# EAGLE library part LM741 (library op-amp)
OP-AMP - Operational Amplifier
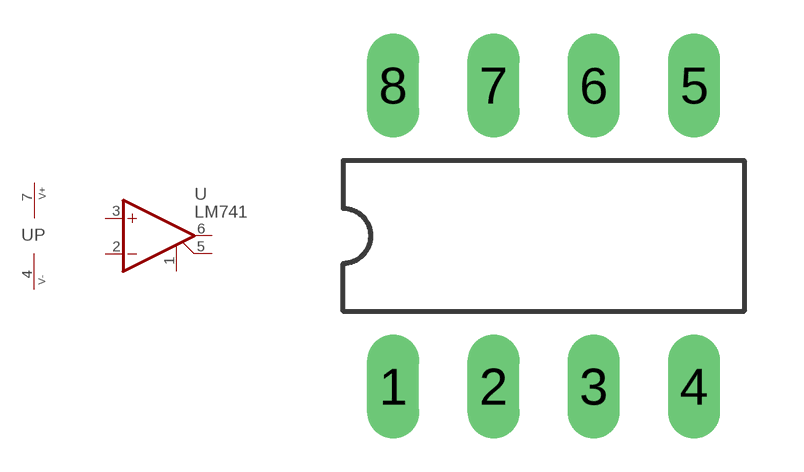
[diagram p33: symbol with the pads of DIL08; footprint DIL08]

Designator prefix U; gates G$1=OPAMP_PV P=PWR_V+- G$2=_OFFNULL2

## LM741N (P1I: o)  [DIL08]
1  G$2:NULL1  pas
2  G$1:-IN  in
3  G$1:+IN  in
4  P:V-  pwr
5  G$2:NULL2  pas
6  G$1:OUT  out
7  P:V+  pwr

## Footprint DIL08 (pad centres in mm)
Dual In Line Package
drill 0.813 long: 1 -3.81,-3.81; 2 -1.27,-3.81; 3 1.27,-3.81; 4 3.81,-3.81; 5 3.81,3.81; 6 1.27,3.81; 7 -1.27,3.81; 8 -3.81,3.81